# Altium integrated library Diode - Rectifier.IntLib: 777 symbols (part 5 of 12)
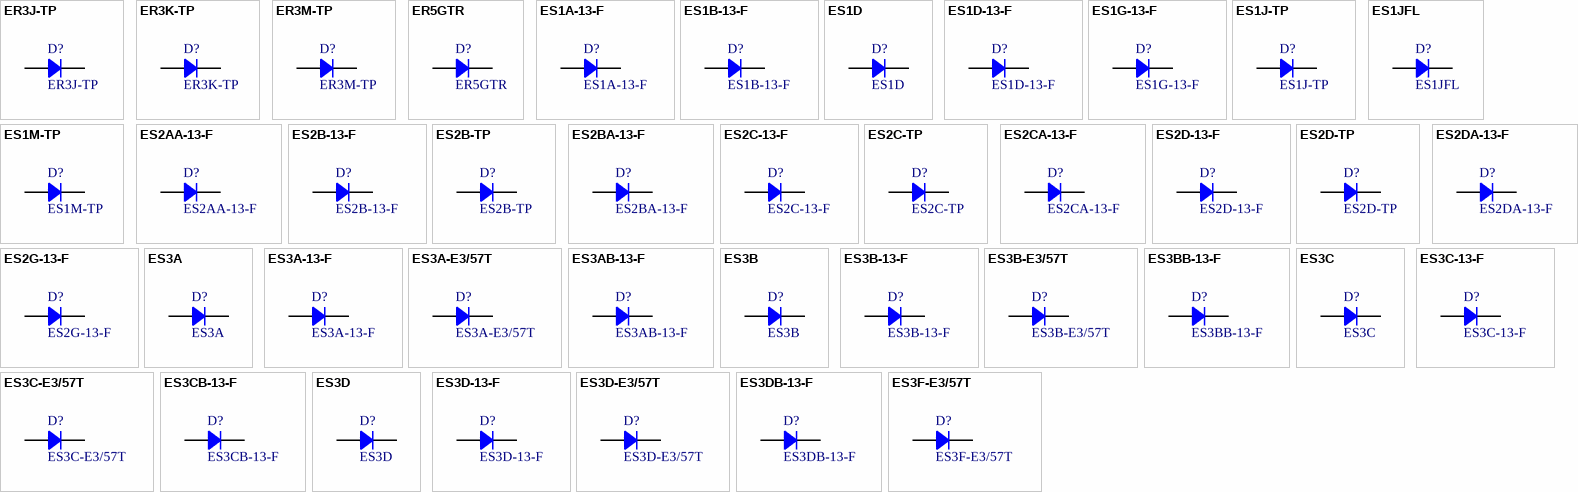
[diagram p23: symbols ER3J-TP to ES3F-E3/57T]

## ES2C-TP
designator D?
DIODE GEN PURP 150V 2A DO214AC; Manufacturer: Micro Commercial Co; Type: Standard; Current Reverse Leakage @ Vr: 5uA @ 150V; Reverse Recovery Time (trr): 50ns; Voltage Forward (Vf): 975mV @ 2A; Part Number: ES2C-TP; PartId: 18061; Supplier 1: Digi-Key; Supplier Part Number 1: ES2C-TPTR-ND; ComponentLink1Description: Datasheet; ComponentLink1URL: http://www.mccsemi.com/up_pdf/ES2A-ES2M(HSMA).pdf; ComponentLink2Description: Digi-Key Listing; ComponentLink2URL: https://www.digikey.com/product-detail/en/micro-commercial-co/ES2C-TP/ES2C-TPTR-ND/1306184; Junction Operating Temperature: -50C ~ 150C; Price: 0.1738; Device Package: DO-214AC, SMA; Voltage DC Reverse (Vr): 150V; Current Rectified: 2A
footprint ST DO214AC SMA
pins: 1, 2

## ES2CA-13-F
designator D?
DIODE GEN PURP 150V 2A SMA; Manufacturer: Diodes Incorporated; Type: Standard; Current Reverse Leakage @ Vr: 5uA @ 150V; Reverse Recovery Time (trr): 25ns; Voltage Forward (Vf): 920mV @ 2A; Part Number: ES2CA-13-F; PartId: 16365; Supplier 1: Digi-Key; Supplier Part Number 1: ES2CA-FDITR-ND; ComponentLink1Description: Datasheet; ComponentLink1URL: http://www.diodes.com/_files/datasheets/ds14002.pdf; ComponentLink2Description: Digi-Key Listing; ComponentLink2URL: https://www.digikey.com/product-detail/en/diodes-incorporated/ES2CA-13-F/ES2CA-FDITR-ND/815107; Junction Operating Temperature: -55C ~ 150C; Price: 0.243; Device Package: DO-214AC, SMA; Voltage DC Reverse (Vr): 150V; Current Rectified: 2A
footprint DO214AC SMA
pins: 1, 2

## ES2D-13-F
designator D?
DIODE GEN PURP 200V 2A SMB; Manufacturer: Diodes Incorporated; Type: Standard; Current Reverse Leakage @ Vr: 5uA @ 200V; Reverse Recovery Time (trr): 25ns; Voltage Forward (Vf): 920mV @ 2A; Part Number: ES2D-13-F; PartId: 16288; Supplier 1: Digi-Key; Supplier Part Number 1: ES2D-FDITR-ND; ComponentLink1Description: Datasheet; ComponentLink1URL: http://www.diodes.com/_files/datasheets/ds14002.pdf; ComponentLink2Description: Digi-Key Listing; ComponentLink2URL: https://www.digikey.com/product-detail/en/diodes-incorporated/ES2D-13-F/ES2D-FDITR-ND/749967; Junction Operating Temperature: -55C ~ 150C; Price: 0.155; Device Package: DO-214AA, SMB; Voltage DC Reverse (Vr): 200V; Current Rectified: 2A
footprint DO214AA SMB
pins: 1, 2

## ES2D-TP
designator D?
DIODE GEN PURP 200V 2A DO214AC; Manufacturer: Micro Commercial Co; Type: Standard; Current Reverse Leakage @ Vr: 5uA @ 200V; Reverse Recovery Time (trr): 50ns; Voltage Forward (Vf): 975mV @ 2A; Part Number: ES2D-TP; PartId: 18059; Supplier 1: Digi-Key; Supplier Part Number 1: ES2D-TPTR-ND; ComponentLink1Description: Datasheet; ComponentLink1URL: http://www.mccsemi.com/up_pdf/ES2A-ES2M(HSMA).pdf; ComponentLink2Description: Digi-Key Listing; ComponentLink2URL: https://www.digikey.com/product-detail/en/micro-commercial-co/ES2D-TP/ES2D-TPTR-ND/1306185; Junction Operating Temperature: -50C ~ 150C; Price: 0.1738; Device Package: DO-214AC, SMA; Voltage DC Reverse (Vr): 200V; Current Rectified: 2A
footprint ST DO214AC SMA
pins: 1, 2

## ES2DA-13-F
designator D?
DIODE GEN PURP 200V 2A SMA; Manufacturer: Diodes Incorporated; Type: Standard; Current Reverse Leakage @ Vr: 5uA @ 200V; Reverse Recovery Time (trr): 25ns; Voltage Forward (Vf): 920mV @ 2A; Part Number: ES2DA-13-F; PartId: 16337; Supplier 1: Digi-Key; Supplier Part Number 1: ES2DA-FDITR-ND; ComponentLink1Description: Datasheet; ComponentLink1URL: http://www.diodes.com/_files/datasheets/ds14002.pdf; ComponentLink2Description: Digi-Key Listing; ComponentLink2URL: https://www.digikey.com/product-detail/en/diodes-incorporated/ES2DA-13-F/ES2DA-FDITR-ND/725018; Junction Operating Temperature: -55C ~ 150C; Price: 0.124; Device Package: DO-214AC, SMA; Voltage DC Reverse (Vr): 200V; Current Rectified: 2A
footprint DO214AC SMA
pins: 1, 2

## ES2G-13-F
designator D?
DIODE GEN PURP 400V 2A SMB; Manufacturer: Diodes Incorporated; Type: Standard; Current Reverse Leakage @ Vr: 5uA @ 400V; Reverse Recovery Time (trr): 35ns; Voltage Forward (Vf): 1.25V @ 2A; Part Number: ES2G-13-F; PartId: 16283; Supplier 1: Digi-Key; Supplier Part Number 1: ES2G-FDITR-ND; ComponentLink1Description: Datasheet; ComponentLink1URL: http://www.diodes.com/_files/datasheets/ds30212.pdf; ComponentLink2Description: Digi-Key Listing; ComponentLink2URL: https://www.digikey.com/product-detail/en/diodes-incorporated/ES2G-13-F/ES2G-FDITR-ND/1099121; Junction Operating Temperature: -55C ~ 150C; Price: 0.1237; Device Package: DO-214AA, SMB; Voltage DC Reverse (Vr): 400V; Current Rectified: 2A
footprint DO214AA SMB
pins: 1, 2

## ES3A
designator D?
DIODE GEN PURP 50V 3A SMC; Manufacturer: Fairchild/ON Semiconductor; Type: Standard; Current Reverse Leakage @ Vr: 10uA @ 50V; Reverse Recovery Time (trr): 20ns; Voltage Forward (Vf): 950mV @ 3A; Part Number: ES3A; PartId: 27682; Supplier 1: Digi-Key; Supplier Part Number 1: ES3AFSCT-ND; ComponentLink1Description: Datasheet; ComponentLink1URL: https://www.fairchildsemi.com/datasheets/ES/ES3A.pdf; ComponentLink2Description: Digi-Key Listing; ComponentLink2URL: https://www.digikey.com/product-detail/en/fairchild-on-semiconductor/ES3A/ES3AFSCT-ND/3042551; Junction Operating Temperature: -50C ~ 150C; Price: 0.51; Device Package: DO-214AB, SMC; Voltage DC Reverse (Vr): 50V; Current Rectified: 3A
footprint ST DO214AB SMC
pins: 1, 2

## ES3A-13-F
designator D?
DIODE GEN PURP 50V 3A SMC; Manufacturer: Diodes Incorporated; Type: Standard; Current Reverse Leakage @ Vr: 10uA @ 50V; Reverse Recovery Time (trr): 25ns; Voltage Forward (Vf): 900mV @ 3A; Part Number: ES3A-13-F; PartId: 16232; Supplier 1: Digi-Key; Supplier Part Number 1: ES3A-FDITR-ND; ComponentLink1Description: Datasheet; ComponentLink1URL: http://www.diodes.com/_files/datasheets/ds14003.pdf; ComponentLink2Description: Digi-Key Listing; ComponentLink2URL: https://www.digikey.com/product-detail/en/diodes-incorporated/ES3A-13-F/ES3A-FDITR-ND/815136; Junction Operating Temperature: -55C ~ 150C; Price: 0.217; Device Package: DO-214AB, SMC; Voltage DC Reverse (Vr): 50V; Current Rectified: 3A
footprint DO214AB SMC
pins: 1, 2

## ES3A-E3/57T
designator D?
DIODE GEN PURP 50V 3A DO214AB; Manufacturer: Vishay Semiconductor Diodes Division; Type: Standard; Current Reverse Leakage @ Vr: 10uA @ 50V; Reverse Recovery Time (trr): 30ns; Voltage Forward (Vf): 900mV @ 3A; Part Number: ES3A-E3/57T; PartId: 27830; Supplier 1: Digi-Key; Supplier Part Number 1: ES3A-E3/57TGICT-ND; ComponentLink1Description: Datasheet; ComponentLink1URL: http://www.vishay.com/docs/88589/es3.pdf; ComponentLink2Description: Digi-Key Listing; ComponentLink2URL: https://www.digikey.com/product-detail/en/vishay-semiconductor-diodes-division/ES3A-E3-57T/ES3A-E3-57TGICT-ND/4498268; Junction Operating Temperature: -55C ~ 150C; Price: 0.49; Device Package: DO-214AB, SMC; Voltage DC Reverse (Vr): 50V; Current Rectified: 3A
footprint ST DO214AB SMC
pins: 1, 2

## ES3AB-13-F
designator D?
DIODE GEN PURP 50V 3A SMB; Manufacturer: Diodes Incorporated; Type: Standard; Current Reverse Leakage @ Vr: 10uA @ 50V; Reverse Recovery Time (trr): 25ns; Voltage Forward (Vf): 900mV @ 3A; Part Number: ES3AB-13-F; PartId: 16261; Supplier 1: Digi-Key; Supplier Part Number 1: ES3AB-FDITR-ND; ComponentLink1Description: Datasheet; ComponentLink1URL: http://www.diodes.com/_files/datasheets/ds14003.pdf; ComponentLink2Description: Digi-Key Listing; ComponentLink2URL: https://www.digikey.com/product-detail/en/diodes-incorporated/ES3AB-13-F/ES3AB-FDITR-ND/775734; Junction Operating Temperature: -55C ~ 150C; Price: 0.217; Device Package: DO-214AA, SMB; Voltage DC Reverse (Vr): 50V; Current Rectified: 3A
footprint DO214AA SMB
pins: 1, 2

## ES3B
designator D?
DIODE GEN PURP 100V 3A SMC; Manufacturer: Fairchild/ON Semiconductor; Type: Standard; Current Reverse Leakage @ Vr: 10uA @ 100V; Reverse Recovery Time (trr): 20ns; Voltage Forward (Vf): 950mV @ 3A; Part Number: ES3B; PartId: 27834; Supplier 1: Digi-Key; Supplier Part Number 1: ES3BFSCT-ND; ComponentLink1Description: Datasheet; ComponentLink1URL: https://www.fairchildsemi.com/datasheets/ES/ES3B.pdf; ComponentLink2Description: Digi-Key Listing; ComponentLink2URL: https://www.digikey.com/product-detail/en/fairchild-on-semiconductor/ES3B/ES3BFSCT-ND/2053091; Junction Operating Temperature: -50C ~ 150C; Price: 0.51; Device Package: DO-214AB, SMC; Voltage DC Reverse (Vr): 100V; Current Rectified: 3A
footprint ST DO214AB SMC
pins: 1, 2

## ES3B-13-F
designator D?
DIODE GEN PURP 100V 3A SMC; Manufacturer: Diodes Incorporated; Type: Standard; Current Reverse Leakage @ Vr: 10uA @ 100V; Reverse Recovery Time (trr): 25ns; Voltage Forward (Vf): 900mV @ 3A; Part Number: ES3B-13-F; PartId: 16209; Supplier 1: Digi-Key; Supplier Part Number 1: ES3B-FDITR-ND; ComponentLink1Description: Datasheet; ComponentLink1URL: http://www.diodes.com/_files/datasheets/ds14003.pdf; ComponentLink2Description: Digi-Key Listing; ComponentLink2URL: https://www.digikey.com/product-detail/en/diodes-incorporated/ES3B-13-F/ES3B-FDITR-ND/724955; Junction Operating Temperature: -55C ~ 150C; Price: 0.2465; Device Package: DO-214AB, SMC; Voltage DC Reverse (Vr): 100V; Current Rectified: 3A
footprint DO214AB SMC
pins: 1, 2

## ES3B-E3/57T
designator D?
DIODE GEN PURP 100V 3A DO214AB; Manufacturer: Vishay Semiconductor Diodes Division; Type: Standard; Current Reverse Leakage @ Vr: 10uA @ 100V; Reverse Recovery Time (trr): 30ns; Voltage Forward (Vf): 900mV @ 3A; Part Number: ES3B-E3/57T; PartId: 27748; Supplier 1: Digi-Key; Supplier Part Number 1: ES3B-E3/57TGICT-ND; ComponentLink1Description: Datasheet; ComponentLink1URL: http://www.vishay.com/docs/88589/es3.pdf; ComponentLink2Description: Digi-Key Listing; ComponentLink2URL: https://www.digikey.com/product-detail/en/vishay-semiconductor-diodes-division/ES3B-E3-57T/ES3B-E3-57TGICT-ND/1091577; Junction Operating Temperature: -55C ~ 150C; Price: 0.49; Device Package: DO-214AB, SMC; Voltage DC Reverse (Vr): 100V; Current Rectified: 3A
footprint ST DO214AB SMC
pins: 1, 2

## ES3BB-13-F
designator D?
DIODE GEN PURP 100V 3A SMB; Manufacturer: Diodes Incorporated; Type: Standard; Current Reverse Leakage @ Vr: 10uA @ 100V; Reverse Recovery Time (trr): 25ns; Voltage Forward (Vf): 900mV @ 3A; Part Number: ES3BB-13-F; PartId: 16262; Supplier 1: Digi-Key; Supplier Part Number 1: ES3BB-FDITR-ND; ComponentLink1Description: Datasheet; ComponentLink1URL: http://www.diodes.com/_files/datasheets/ds14003.pdf; ComponentLink2Description: Digi-Key Listing; ComponentLink2URL: https://www.digikey.com/product-detail/en/diodes-incorporated/ES3BB-13-F/ES3BB-FDITR-ND/804873; Junction Operating Temperature: -55C ~ 150C; Price: 0.217; Device Package: DO-214AA, SMB; Voltage DC Reverse (Vr): 100V; Current Rectified: 3A
footprint DO214AA SMB
pins: 1, 2

## ES3C
designator D?
DIODE GEN PURP 150V 3A SMC; Manufacturer: Fairchild/ON Semiconductor; Type: Standard; Current Reverse Leakage @ Vr: 10uA @ 150V; Reverse Recovery Time (trr): 20ns; Voltage Forward (Vf): 950mV @ 3A; Part Number: ES3C; PartId: 27765; Supplier 1: Digi-Key; Supplier Part Number 1: ES3CFSCT-ND; ComponentLink1Description: Datasheet; ComponentLink1URL: https://www.fairchildsemi.com/datasheets/ES/ES3A.pdf; ComponentLink2Description: Digi-Key Listing; ComponentLink2URL: https://www.digikey.com/product-detail/en/fairchild-on-semiconductor/ES3C/ES3CFSCT-ND/3478297; Junction Operating Temperature: -50C ~ 150C; Price: 0.51; Device Package: DO-214AB, SMC; Voltage DC Reverse (Vr): 150V; Current Rectified: 3A
footprint ST DO214AB SMC
pins: 1, 2

## ES3C-13-F
designator D?
DIODE GEN PURP 150V 3A SMC; Manufacturer: Diodes Incorporated; Type: Standard; Current Reverse Leakage @ Vr: 10uA @ 150V; Reverse Recovery Time (trr): 25ns; Voltage Forward (Vf): 900mV @ 3A; Part Number: ES3C-13-F; PartId: 16235; Supplier 1: Digi-Key; Supplier Part Number 1: ES3C-FDITR-ND; ComponentLink1Description: Datasheet; ComponentLink1URL: http://www.diodes.com/_files/datasheets/ds14003.pdf; ComponentLink2Description: Digi-Key Listing; ComponentLink2URL: https://www.digikey.com/product-detail/en/diodes-incorporated/ES3C-13-F/ES3C-FDITR-ND/750065; Junction Operating Temperature: -55C ~ 150C; Price: 0.378; Device Package: DO-214AB, SMC; Voltage DC Reverse (Vr): 150V; Current Rectified: 3A
footprint DO214AB SMC
pins: 1, 2

## ES3C-E3/57T
designator D?
DIODE GEN PURP 150V 3A DO214AB; Manufacturer: Vishay Semiconductor Diodes Division; Type: Standard; Current Reverse Leakage @ Vr: 10uA @ 150V; Reverse Recovery Time (trr): 30ns; Voltage Forward (Vf): 900mV @ 3A; Part Number: ES3C-E3/57T; PartId: 27781; Supplier 1: Digi-Key; Supplier Part Number 1: ES3C-E3/57TGICT-ND; ComponentLink1Description: Datasheet; ComponentLink1URL: http://www.vishay.com/docs/88589/es3.pdf; ComponentLink2Description: Digi-Key Listing; ComponentLink2URL: https://www.digikey.com/product-detail/en/vishay-semiconductor-diodes-division/ES3C-E3-57T/ES3C-E3-57TGICT-ND/3847587; Junction Operating Temperature: -55C ~ 150C; Price: 0.49; Device Package: DO-214AB, SMC; Voltage DC Reverse (Vr): 150V; Current Rectified: 3A
footprint ST DO214AB SMC
pins: 1, 2

## ES3CB-13-F
designator D?
DIODE GEN PURP 150V 3A SMB; Manufacturer: Diodes Incorporated; Type: Standard; Current Reverse Leakage @ Vr: 10uA @ 150V; Reverse Recovery Time (trr): 25ns; Voltage Forward (Vf): 900mV @ 3A; Part Number: ES3CB-13-F; PartId: 16292; Supplier 1: Digi-Key; Supplier Part Number 1: ES3CB-FDITR-ND; ComponentLink1Description: Datasheet; ComponentLink1URL: http://www.diodes.com/_files/datasheets/ds14003.pdf; ComponentLink2Description: Digi-Key Listing; ComponentLink2URL: https://www.digikey.com/product-detail/en/diodes-incorporated/ES3CB-13-F/ES3CB-FDITR-ND/755462; Junction Operating Temperature: -55C ~ 150C; Price: 0.217; Device Package: DO-214AA, SMB; Voltage DC Reverse (Vr): 150V; Current Rectified: 3A
footprint DO214AA SMB
pins: 1, 2

## ES3D
designator D?
DIODE GEN PURP 200V 3A SMC; Manufacturer: Fairchild Semiconductor; Type: Surface Mount; Current Reverse Leakage @ Vr: 10uA @ 200V; Reverse Recovery Time (trr): 20ns; Voltage Forward (Vf): 950mV @ 3A; Part Number: ES3D; PartId: 7139; Supplier 1: Digi-Key; Supplier Part Number 1: ES3DFSTR-ND; ComponentLink1Description: Datasheet; ComponentLink1URL: http://www.fairchildsemi.com/datasheets/ES/ES3A.pdf; ComponentLink2Description: Digi-Key Listing; ComponentLink2URL: http://www.digikey.ca/product-detail/en/ES3D/ES3DFSTR-ND/458839; Junction Operating Temperature: -50C ~ 150C; Price: 0.1935; Device Package: DO-214AB, SMC; Voltage DC Reverse (Vr): 200V; Current Rectified: 3A
footprint DO214AB SMC
pins: 1, 2

## ES3D-13-F
designator D?
DIODE GEN PURP 200V 3A SMC; Manufacturer: Diodes Incorporated; Type: Standard; Current Reverse Leakage @ Vr: 10uA @ 200V; Reverse Recovery Time (trr): 25ns; Voltage Forward (Vf): 900mV @ 3A; Part Number: ES3D-13-F; PartId: 16226; Supplier 1: Digi-Key; Supplier Part Number 1: ES3D-FDITR-ND; ComponentLink1Description: Datasheet; ComponentLink1URL: http://www.diodes.com/_files/datasheets/ds14003.pdf; ComponentLink2Description: Digi-Key Listing; ComponentLink2URL: https://www.digikey.com/product-detail/en/diodes-incorporated/ES3D-13-F/ES3D-FDITR-ND/765413; Junction Operating Temperature: -55C ~ 150C; Price: 0.217; Device Package: DO-214AB, SMC; Voltage DC Reverse (Vr): 200V; Current Rectified: 3A
footprint DO214AB SMC
pins: 1, 2

## ES3D-E3/57T
designator D?
DIODE GEN PURP 200V 3A DO214AB; Manufacturer: Vishay Semiconductor Diodes Division; Type: Standard; Current Reverse Leakage @ Vr: 10uA @ 200V; Reverse Recovery Time (trr): 30ns; Voltage Forward (Vf): 900mV @ 3A; Part Number: ES3D-E3/57T; PartId: 27694; Supplier 1: Digi-Key; Supplier Part Number 1: ES3D-E3/57TGICT-ND; ComponentLink1Description: Datasheet; ComponentLink1URL: http://www.vishay.com/docs/88589/es3.pdf; ComponentLink2Description: Digi-Key Listing; ComponentLink2URL: https://www.digikey.com/product-detail/en/vishay-semiconductor-diodes-division/ES3D-E3-57T/ES3D-E3-57TGICT-ND/1091578; Junction Operating Temperature: -55C ~ 150C; Price: 0.49; Device Package: DO-214AB, SMC; Voltage DC Reverse (Vr): 200V; Current Rectified: 3A
footprint ST DO214AB SMC
pins: 1, 2

## ES3DB-13-F
designator D?
DIODE GEN PURP 200V 3A SMB; Manufacturer: Diodes Incorporated; Type: Standard; Current Reverse Leakage @ Vr: 10uA @ 200V; Reverse Recovery Time (trr): 25ns; Voltage Forward (Vf): 900mV @ 3A; Part Number: ES3DB-13-F; PartId: 16259; Supplier 1: Digi-Key; Supplier Part Number 1: ES3DB-FDITR-ND; ComponentLink1Description: Datasheet; ComponentLink1URL: http://www.diodes.com/_files/datasheets/ds14003.pdf; ComponentLink2Description: Digi-Key Listing; ComponentLink2URL: https://www.digikey.com/product-detail/en/diodes-incorporated/ES3DB-13-F/ES3DB-FDITR-ND/775840; Junction Operating Temperature: -55C ~ 150C; Price: 0.217; Device Package: DO-214AA, SMB; Voltage DC Reverse (Vr): 200V; Current Rectified: 3A
footprint DO214AA SMB
pins: 1, 2

## ES3F-E3/57T
designator D?
DIODE GEN PURP 300V 3A DO214AB; Manufacturer: Vishay Semiconductor Diodes Division; Type: Standard; Current Reverse Leakage @ Vr: 10uA @ 300V; Reverse Recovery Time (trr): 50ns; Voltage Forward (Vf): 1.1V @ 3A; Part Number: ES3F-E3/57T; PartId: 27782; Supplier 1: Digi-Key; Supplier Part Number 1: ES3F-E3/57TGICT-ND; ComponentLink1Description: Datasheet; ComponentLink1URL: http://www.vishay.com/docs/88590/es3f.pdf; ComponentLink2Description: Digi-Key Listing; ComponentLink2URL: https://www.digikey.com/product-detail/en/vishay-semiconductor-diodes-division/ES3F-E3-57T/ES3F-E3-57TGICT-ND/4498269; Junction Operating Temperature: -55C ~ 150C; Price: 0.49; Device Package: DO-214AB, SMC; Voltage DC Reverse (Vr): 300V; Current Rectified: 3A
footprint ST DO214AB SMC
pins: 1, 2

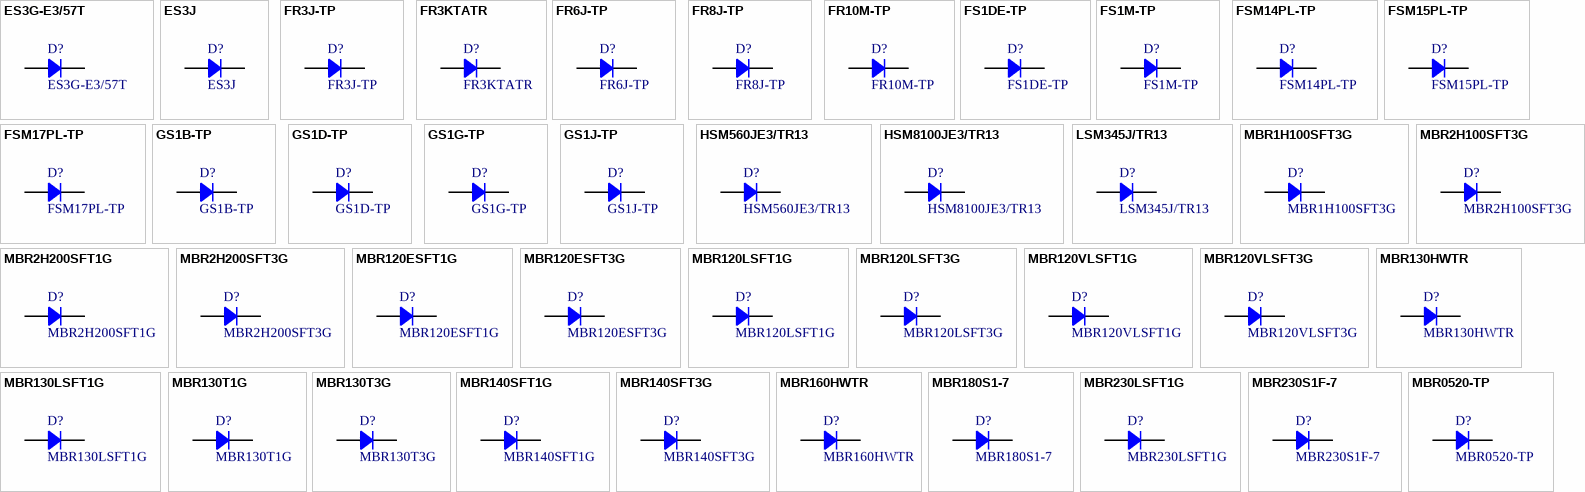
[diagram p7: symbols ES3G-E3/57T to MBR0520-TP]

## ES3G-E3/57T
designator D?
DIODE GEN PURP 400V 3A DO214AB; Manufacturer: Vishay Semiconductor Diodes Division; Type: Standard; Current Reverse Leakage @ Vr: 10uA @ 400V; Reverse Recovery Time (trr): 50ns; Voltage Forward (Vf): 1.1V @ 3A; Part Number: ES3G-E3/57T; PartId: 27747; Supplier 1: Digi-Key; Supplier Part Number 1: ES3G-E3/57TGICT-ND; ComponentLink1Description: Datasheet; ComponentLink1URL: http://www.vishay.com/docs/88590/es3f.pdf; ComponentLink2Description: Digi-Key Listing; ComponentLink2URL: https://www.digikey.com/product-detail/en/vishay-semiconductor-diodes-division/ES3G-E3-57T/ES3G-E3-57TGICT-ND/1091579; Junction Operating Temperature: -55C ~ 150C; Price: 0.49; Device Package: DO-214AB, SMC; Voltage DC Reverse (Vr): 400V; Current Rectified: 3A
footprint ST DO214AB SMC
pins: 1, 2

## ES3J
designator D?
DIODE GEN PURP 600V 3A SMC; Manufacturer: Fairchild/ON Semiconductor; Type: Standard; Current Reverse Leakage @ Vr: 10uA @ 600V; Reverse Recovery Time (trr): 35ns; Voltage Forward (Vf): 1.7V @ 3A; Part Number: ES3J; PartId: 27720; Supplier 1: Digi-Key; Supplier Part Number 1: ES3JCT-ND; ComponentLink1Description: Datasheet; ComponentLink1URL: https://www.fairchildsemi.com/datasheets/ES/ES3A.pdf; ComponentLink2Description: Digi-Key Listing; ComponentLink2URL: https://www.digikey.com/product-detail/en/fairchild-on-semiconductor/ES3J/ES3JCT-ND/1087833; Junction Operating Temperature: -50C ~ 150C; Price: 0.5; Device Package: DO-214AB, SMC; Voltage DC Reverse (Vr): 600V; Current Rectified: 3A
footprint ST DO214AB SMC
pins: 1, 2

## FR3J-TP
designator D?
DIODE GEN PURP 600V 3A DO214AB; Manufacturer: Micro Commercial Co; Type: Standard; Current Reverse Leakage @ Vr: 10uA @ 600V; Reverse Recovery Time (trr): 250ns; Voltage Forward (Vf): 1.3V @ 3A; Part Number: FR3J-TP; PartId: 27851; Supplier 1: Digi-Key; Supplier Part Number 1: FR3J-TPMSCT-ND; ComponentLink1Description: Datasheet; ComponentLink1URL: http://www.mccsemi.com/up_pdf/FR3A-FR3M(SMC).pdf; ComponentLink2Description: Digi-Key Listing; ComponentLink2URL: https://www.digikey.com/product-detail/en/micro-commercial-co/FR3J-TP/FR3J-TPMSCT-ND/3191611; Junction Operating Temperature: -55C ~ 150C; Price: 0.63; Device Package: DO-214AB, SMC; Voltage DC Reverse (Vr): 600V; Current Rectified: 3A
footprint ST DO214AB SMC
pins: 1, 2

## FR3KTATR
designator D?
DIODE GEN PURP 800V 3A SMC; Manufacturer: SMC Diode Solutions; Type: Standard; Current Reverse Leakage @ Vr: 5uA @ 800V; Reverse Recovery Time (trr): 500ns; Voltage Forward (Vf): 1.3V @ 3A; Part Number: FR3KTATR; PartId: 27797; Supplier 1: Digi-Key; Supplier Part Number 1: 1655-1431-1-ND; ComponentLink1Description: Datasheet; ComponentLink1URL: http://www.smc-diodes.com/propdf/FR3A-FR3M%20N1742%20REV.A.pdf; ComponentLink2Description: Digi-Key Listing; ComponentLink2URL: https://www.digikey.com/product-detail/en/smc-diode-solutions/FR3KTATR/1655-1431-1-ND/6022876; Junction Operating Temperature: -65C ~ 150C; Price: 0.43; Device Package: DO-214AB, SMC; Voltage DC Reverse (Vr): 800V; Current Rectified: 3A
footprint ST DO214AB SMC
pins: 1, 2

## FR6J-TP
designator D?
DIODE GEN PURP 600V 6A DO214AB; Manufacturer: Micro Commercial Co; Type: Standard; Current Reverse Leakage @ Vr: 10uA @ 600V; Reverse Recovery Time (trr): 250ns; Voltage Forward (Vf): 1.3V @ 6A; Part Number: FR6J-TP; PartId: 27750; Supplier 1: Digi-Key; Supplier Part Number 1: FR6J-TPMSCT-ND; ComponentLink1Description: Datasheet; ComponentLink1URL: http://www.mccsemi.com/up_pdf/FR6J(HSMC).pdf; ComponentLink2Description: Digi-Key Listing; ComponentLink2URL: https://www.digikey.com/product-detail/en/micro-commercial-co/FR6J-TP/FR6J-TPMSCT-ND/3191612; Junction Operating Temperature: -55C ~ 150C; Price: 0.65; Device Package: DO-214AB, SMC; Voltage DC Reverse (Vr): 600V; Current Rectified: 6A
footprint ST DO214AB SMC
pins: 1, 2

## FR8J-TP
designator D?
DIODE GEN PURP 600V 8A DO214AB; Manufacturer: Micro Commercial Co; Type: Standard; Current Reverse Leakage @ Vr: 10uA @ 600V; Reverse Recovery Time (trr): 250ns; Voltage Forward (Vf): 1.3V @ 8A; Part Number: FR8J-TP; PartId: 27852; Supplier 1: Digi-Key; Supplier Part Number 1: FR8J-TPMSCT-ND; ComponentLink1Description: Datasheet; ComponentLink1URL: http://www.mccsemi.com/up_pdf/FR8J(HSMC).pdf; ComponentLink2Description: Digi-Key Listing; ComponentLink2URL: https://www.digikey.com/product-detail/en/micro-commercial-co/FR8J-TP/FR8J-TPMSCT-ND/4966288; Junction Operating Temperature: -55C ~ 150C; Price: 0.65; Device Package: DO-214AB, SMC; Voltage DC Reverse (Vr): 600V; Current Rectified: 8A
footprint ST DO214AB SMC
pins: 1, 2

## FR10M-TP
designator D?
DIODE GEN PURP 1KV 10A DO214AB; Manufacturer: Micro Commercial Co; Type: Standard; Current Reverse Leakage @ Vr: 10uA @ 1000V; Reverse Recovery Time (trr): 500ns; Voltage DC Reverse (Vr): 1000V (1kV); Voltage Forward (Vf): 1.3V @ 10A; Part Number: FR10M-TP; PartId: 27863; Supplier 1: Digi-Key; Supplier Part Number 1: FR10M-TPMSCT-ND; ComponentLink1Description: Datasheet; ComponentLink1URL: http://www.mccsemi.com/up_pdf/FR10A-FR10M(HSMC).pdf; ComponentLink2Description: Digi-Key Listing; ComponentLink2URL: https://www.digikey.com/product-detail/en/micro-commercial-co/FR10M-TP/FR10M-TPMSCT-ND/4966289; Junction Operating Temperature: -55C ~ 150C; Price: 0.74; Device Package: DO-214AB, SMC; Current Rectified: 10A
footprint ST DO214AB SMC
pins: 1, 2

## FS1DE-TP
designator D?
DIODE GEN PURP 200V 1A SMAE; Manufacturer: Micro Commercial Co; Type: Surface Mount; Current Reverse Leakage @ Vr: 5uA @ 200V; Reverse Recovery Time (trr): 150ns; Voltage Forward (Vf): 1.3V @ 1A; Part Number: FS1DE-TP; PartId: 7120; Supplier 1: Digi-Key; Supplier Part Number 1: 1505-FS1DE-TP-CHP; ComponentLink1Description: Datasheet; ComponentLink2Description: Digi-Key Listing; ComponentLink2URL: http://www.digikey.ca/product-detail/en/FS1DE-TP/1505-FS1DE-TP-CHP/4765974; Junction Operating Temperature: -50C ~ 150C; Price: 0.0542; Device Package: DO-214AC, SMA; Voltage DC Reverse (Vr): 200V; Current Rectified: 1A
footprint DO214AC SMA
pins: 1, 2

## FS1M-TP
designator D?
DIODE GEN PURP 1KV 1A DO214AC; Manufacturer: Micro Commercial Co; Type: Standard; Current Reverse Leakage @ Vr: 5uA @ 1000V; Reverse Recovery Time (trr): 500ns; Voltage DC Reverse (Vr): 1000V (1kV); Voltage Forward (Vf): 1.3V @ 1A; Part Number: FS1M-TP; PartId: 18062; Supplier 1: Digi-Key; Supplier Part Number 1: 1505-FS1M-TP-CHP; ComponentLink1Description: Datasheet; ComponentLink2Description: Digi-Key Listing; ComponentLink2URL: https://www.digikey.com/product-detail/en/micro-commercial-co/FS1M-TP/1505-FS1M-TP-CHP/4765975; Junction Operating Temperature: -50C ~ 150C; Price: 0.08; Device Package: DO-214AC, SMA; Current Rectified: 1A
footprint ST DO214AC SMA
pins: 1, 2

## FSM14PL-TP
designator D?
DIODE GEN PURP 400V 1A SOD123FL; Manufacturer: Micro Commercial Co; Type: Standard; Current Reverse Leakage @ Vr: 5uA @ 400V; Reverse Recovery Time (trr): 250ns; Voltage Forward (Vf): 1.3V @ 1A; Part Number: FSM14PL-TP; PartId: 29309; Supplier 1: Digi-Key; Supplier Part Number 1: FSM14PL-TPMSCT-ND; ComponentLink1Description: Datasheet; ComponentLink1URL: http://www.mccsemi.com/up_pdf/FSM11PL-FSM17PL(SOD-123FL).pdf; ComponentLink2Description: Digi-Key Listing; ComponentLink2URL: https://www.digikey.com/product-detail/en/micro-commercial-co/FSM14PL-TP/FSM14PL-TPMSCT-ND/5224284; Junction Operating Temperature: -65C ~ 150C; Price: 0.54; Device Package: SOD-123F; Voltage DC Reverse (Vr): 400V; Current Rectified: 1A
footprint SOD123F
pins: 1, 2

## FSM15PL-TP
designator D?
DIODE GEN PURP 600V 1A SOD123FL; Manufacturer: Micro Commercial Co; Type: Standard; Current Reverse Leakage @ Vr: 5uA @ 600V; Reverse Recovery Time (trr): 500ns; Voltage Forward (Vf): 1.3V @ 1A; Part Number: FSM15PL-TP; PartId: 29308; Supplier 1: Digi-Key; Supplier Part Number 1: FSM15PL-TPMSCT-ND; ComponentLink1Description: Datasheet; ComponentLink1URL: http://www.mccsemi.com/up_pdf/FSM11PL-FSM17PL(SOD-123FL).pdf; ComponentLink2Description: Digi-Key Listing; ComponentLink2URL: https://www.digikey.com/product-detail/en/micro-commercial-co/FSM15PL-TP/FSM15PL-TPMSCT-ND/5224287; Junction Operating Temperature: -65C ~ 150C; Price: 0.54; Device Package: SOD-123F; Voltage DC Reverse (Vr): 600V; Current Rectified: 1A
footprint SOD123F
pins: 1, 2

## FSM17PL-TP
designator D?
DIODE GEN PURP 1KV 1A SOD123FL; Manufacturer: Micro Commercial Co; Type: Standard; Current Reverse Leakage @ Vr: 5uA @ 600V; Reverse Recovery Time (trr): 500ns; Voltage DC Reverse (Vr): 1000V (1kV); Voltage Forward (Vf): 1.3V @ 1A; Part Number: FSM17PL-TP; PartId: 29242; Supplier 1: Digi-Key; Supplier Part Number 1: FSM17PL-TPMSCT-ND; ComponentLink1Description: Datasheet; ComponentLink1URL: http://www.mccsemi.com/up_pdf/FSM11PL-FSM17PL(SOD-123FL).pdf; ComponentLink2Description: Digi-Key Listing; ComponentLink2URL: https://www.digikey.com/product-detail/en/micro-commercial-co/FSM17PL-TP/FSM17PL-TPMSCT-ND/5224290; Junction Operating Temperature: -65C ~ 150C; Price: 0.54; Device Package: SOD-123F; Current Rectified: 1A
footprint SOD123F
pins: 1, 2

## GS1B-TP
designator D?
DIODE GEN PURP 100V 1A DO214AC; Manufacturer: Micro Commercial Co; Type: Standard; Current Reverse Leakage @ Vr: 10uA @ 100V; Voltage Forward (Vf): 1.1V @ 1A; Part Number: GS1B-TP; PartId: 18057; Supplier 1: Digi-Key; Supplier Part Number 1: GS1B-TPTR-ND; ComponentLink1Description: Datasheet; ComponentLink1URL: http://www.mccsemi.com/up_pdf/GS1A-GS1M(HSMA).pdf; ComponentLink2Description: Digi-Key Listing; ComponentLink2URL: https://www.digikey.com/product-detail/en/micro-commercial-co/GS1B-TP/GS1B-TPTR-ND/950426; Junction Operating Temperature: -55C ~ 150C; Price: 0.0865; Device Package: DO-214AC, SMA; Voltage DC Reverse (Vr): 100V; Current Rectified: 1A
footprint ST DO214AC SMA
pins: 1, 2

## GS1D-TP
designator D?
DIODE GEN PURP 200V 1A DO214AC; Manufacturer: Micro Commercial Co; Type: Standard; Current Reverse Leakage @ Vr: 10uA @ 200V; Voltage Forward (Vf): 1.1V @ 1A; Part Number: GS1D-TP; PartId: 18052; Supplier 1: Digi-Key; Supplier Part Number 1: GS1D-TPTR-ND; ComponentLink1Description: Datasheet; ComponentLink1URL: http://www.mccsemi.com/up_pdf/GS1A-GS1M(HSMA).pdf; ComponentLink2Description: Digi-Key Listing; ComponentLink2URL: https://www.digikey.com/product-detail/en/micro-commercial-co/GS1D-TP/GS1D-TPTR-ND/950427; Junction Operating Temperature: -55C ~ 150C; Price: 0.0865; Device Package: DO-214AC, SMA; Voltage DC Reverse (Vr): 200V; Current Rectified: 1A
footprint ST DO214AC SMA
pins: 1, 2

## GS1G-TP
designator D?
DIODE GEN PURP 400V 1A DO214AC; Manufacturer: Micro Commercial Co; Type: Standard; Current Reverse Leakage @ Vr: 10uA @ 400V; Voltage Forward (Vf): 1.1V @ 1A; Part Number: GS1G-TP; PartId: 18056; Supplier 1: Digi-Key; Supplier Part Number 1: GS1G-TPTR-ND; ComponentLink1Description: Datasheet; ComponentLink1URL: http://www.mccsemi.com/up_pdf/GS1A-GS1M(HSMA).pdf; ComponentLink2Description: Digi-Key Listing; ComponentLink2URL: https://www.digikey.com/product-detail/en/micro-commercial-co/GS1G-TP/GS1G-TPTR-ND/950428; Junction Operating Temperature: -55C ~ 150C; Price: 0.0865; Device Package: DO-214AC, SMA; Voltage DC Reverse (Vr): 400V; Current Rectified: 1A
footprint ST DO214AC SMA
pins: 1, 2

## GS1J-TP
designator D?
DIODE GEN PURP 600V 1A DO214AC; Manufacturer: Micro Commercial Co; Type: Standard; Current Reverse Leakage @ Vr: 10uA @ 600V; Voltage Forward (Vf): 1.1V @ 1A; Part Number: GS1J-TP; PartId: 18058; Supplier 1: Digi-Key; Supplier Part Number 1: GS1J-TPTR-ND; ComponentLink1Description: Datasheet; ComponentLink1URL: http://www.mccsemi.com/up_pdf/GS1A-GS1M(HSMA).pdf; ComponentLink2Description: Digi-Key Listing; ComponentLink2URL: https://www.digikey.com/product-detail/en/micro-commercial-co/GS1J-TP/GS1J-TPTR-ND/950429; Junction Operating Temperature: -55C ~ 150C; Price: 0.0865; Device Package: DO-214AC, SMA; Voltage DC Reverse (Vr): 600V; Current Rectified: 1A
footprint ST DO214AC SMA
pins: 1, 2

## HSM560JE3/TR13
designator D?
DIODE SCHOTTKY 60V 5A DO214AB; Manufacturer: Microsemi Corporation; Current Reverse Leakage @ Vr: 250uA @ 60V; Voltage Forward (Vf): 650mV @ 5A; Part Number: HSM560JE3/TR13; PartId: 27885; Supplier 1: Digi-Key; Supplier Part Number 1: HSM560JE3/TR13CT-ND; ComponentLink1Description: Datasheet; ComponentLink1URL: //media.digikey.com/pdf/Data%20Sheets/Microsemi%20PDFs/HSM550,560.pdf; ComponentLink2Description: Digi-Key Listing; ComponentLink2URL: https://www.digikey.com/product-detail/en/microsemi-corporation/HSM560JE3-TR13/HSM560JE3-TR13CT-ND/6137792; Junction Operating Temperature: -55C ~ 175C; Price: 1.63; Type: Schottky; Device Package: DO-214AB, SMC; Voltage DC Reverse (Vr): 60V; Current Rectified: 5A
footprint ST DO214AB SMC
pins: 1, 2

## HSM8100JE3/TR13
designator D?
DIODE SCHOTTKY 100V 8A DO214AB; Manufacturer: Microsemi Corporation; Current Reverse Leakage @ Vr: 500uA @ 100V; Voltage Forward (Vf): 780mV @ 8A; Part Number: HSM8100JE3/TR13; PartId: 27763; Supplier 1: Digi-Key; Supplier Part Number 1: HSM8100JE3/TR13CT-ND; ComponentLink1Description: Datasheet; ComponentLink1URL: //media.digikey.com/pdf/Data%20Sheets/Microsemi%20PDFs/HSM80,890,8100.pdf; ComponentLink2Description: Digi-Key Listing; ComponentLink2URL: https://www.digikey.com/product-detail/en/microsemi-corporation/HSM8100JE3-TR13/HSM8100JE3-TR13CT-ND/4395187; Junction Operating Temperature: -55C ~ 175C; Price: 2.3; Type: Schottky; Device Package: DO-214AB, SMC; Voltage DC Reverse (Vr): 100V; Current Rectified: 8A
footprint ST DO214AB SMC
pins: 1, 2

## LSM345J/TR13
designator D?
DIODE SCHOTTKY 45V 3A DO214AB; Manufacturer: Microsemi Corporation; Current Reverse Leakage @ Vr: 1.5mA @ 45V; Voltage Forward (Vf): 520mV @ 3A; Part Number: LSM345J/TR13; PartId: 27887; Supplier 1: Digi-Key; Supplier Part Number 1: LSM345JCT-ND; ComponentLink1Description: Datasheet; ComponentLink1URL: //media.digikey.com/pdf/Data%20Sheets/Microsemi%20PDFs/LSM345J.pdf; ComponentLink2Description: Digi-Key Listing; ComponentLink2URL: https://www.digikey.com/product-detail/en/microsemi-corporation/LSM345J-TR13/LSM345JCT-ND/700451; Junction Operating Temperature: -55C ~ 150C; Price: 1.92; Type: Schottky; Device Package: DO-214AB, SMC; Voltage DC Reverse (Vr): 45V; Current Rectified: 3A
footprint ST DO214AB SMC
pins: 1, 2

## MBR1H100SFT3G
designator D?
DIODE SCHOTTKY 100V 1A SOD123FL; Manufacturer: ON Semiconductor; Current Reverse Leakage @ Vr: 40uA @ 100V; Voltage Forward (Vf): 760mV @ 1A; Part Number: MBR1H100SFT3G; PartId: 29694; Supplier 1: Digi-Key; Supplier Part Number 1: MBR1H100SFT3GOSCT-ND; ComponentLink1Description: Datasheet; ComponentLink1URL: http://www.onsemi.com/pub_link/Collateral/MBR1H100SF-D.PDF; ComponentLink2Description: Digi-Key Listing; ComponentLink2URL: https://www.digikey.com/product-detail/en/on-semiconductor/MBR1H100SFT3G/MBR1H100SFT3GOSCT-ND/3462287; Junction Operating Temperature: -65C ~ 175C; Price: 0.85; Type: Schottky; Device Package: SOD-123F; Voltage DC Reverse (Vr): 100V; Current Rectified: 1A
footprint SOD123F
pins: 1, 2

## MBR2H100SFT3G
designator D?
DIODE SCHOTTKY 100V 2A SOD123FL; Manufacturer: ON Semiconductor; Current Reverse Leakage @ Vr: 40uA @ 100V; Voltage Forward (Vf): 840mV @ 2A; Part Number: MBR2H100SFT3G; PartId: 29287; Supplier 1: Digi-Key; Supplier Part Number 1: MBR2H100SFT3GOSCT-ND; ComponentLink1Description: Datasheet; ComponentLink1URL: http://www.onsemi.com/pub_link/Collateral/MBR2H100SF-D.PDF; ComponentLink2Description: Digi-Key Listing; ComponentLink2URL: https://www.digikey.com/product-detail/en/on-semiconductor/MBR2H100SFT3G/MBR2H100SFT3GOSCT-ND/3462288; Junction Operating Temperature: -65C ~ 175C; Price: 0.45; Type: Schottky; Device Package: SOD-123F; Voltage DC Reverse (Vr): 100V; Current Rectified: 2A
footprint SOD123F
pins: 1, 2

## MBR2H200SFT1G
designator D?
DIODE SCHOTTKY 200V 2A SOD123FL; Manufacturer: ON Semiconductor; Current Reverse Leakage @ Vr: 200uA @ 200V; Voltage Forward (Vf): 940mV @ 2A; Part Number: MBR2H200SFT1G; PartId: 29190; Supplier 1: Digi-Key; Supplier Part Number 1: MBR2H200SFT1GOSCT-ND; ComponentLink1Description: Datasheet; ComponentLink1URL: http://www.onsemi.com/pub_link/Collateral/MBR2H200SF-D.PDF; ComponentLink2Description: Digi-Key Listing; ComponentLink2URL: https://www.digikey.com/product-detail/en/on-semiconductor/MBR2H200SFT1G/MBR2H200SFT1GOSCT-ND/5022563; Junction Operating Temperature: -55C ~ 150C; Price: 0.42; Type: Schottky; Device Package: SOD-123F; Voltage DC Reverse (Vr): 200V; Current Rectified: 2A
footprint SOD123F
pins: 1, 2

## MBR2H200SFT3G
designator D?
DIODE SCHOTTKY 200V 2A SOD123; Manufacturer: ON Semiconductor; Current Reverse Leakage @ Vr: 200uA @ 200V; Voltage Forward (Vf): 940mV @ 2A; Part Number: MBR2H200SFT3G; PartId: 29697; Supplier 1: Digi-Key; Supplier Part Number 1: MBR2H200SFT3GOSCT-ND; ComponentLink1Description: Datasheet; ComponentLink1URL: http://www.onsemi.com/pub_link/Collateral/MBR2H200SF-D.PDF; ComponentLink2Description: Digi-Key Listing; ComponentLink2URL: https://www.digikey.com/product-detail/en/on-semiconductor/MBR2H200SFT3G/MBR2H200SFT3GOSCT-ND/5801703; Junction Operating Temperature: -55C ~ 150C; Price: 0.42; Type: Schottky; Device Package: SOD-123F; Voltage DC Reverse (Vr): 200V; Current Rectified: 2A
footprint SOD123F
pins: 1, 2

## MBR120ESFT1G
designator D?
DIODE SCHOTTKY 20V 1A SOD123L; Manufacturer: ON Semiconductor; Current Reverse Leakage @ Vr: 10uA @ 20V; Voltage Forward (Vf): 530mV @ 1A; Part Number: MBR120ESFT1G; PartId: 29326; Supplier 1: Digi-Key; Supplier Part Number 1: MBR120ESFT1GOSCT-ND; ComponentLink1Description: Datasheet; ComponentLink1URL: http://www.onsemi.com/pub_link/Collateral/MBR120ESFT1-D.PDF; ComponentLink2Description: Digi-Key Listing; ComponentLink2URL: https://www.digikey.com/product-detail/en/on-semiconductor/MBR120ESFT1G/MBR120ESFT1GOSCT-ND/964525; Junction Operating Temperature: -65C ~ 150C; Price: 0.42; Type: Schottky; Device Package: SOD-123F; Voltage DC Reverse (Vr): 20V; Current Rectified: 1A
footprint SOD123F
pins: 1, 2

## MBR120ESFT3G
designator D?
DIODE SCHOTTKY 20V 1A SOD123L; Manufacturer: ON Semiconductor; Current Reverse Leakage @ Vr: 10uA @ 20V; Voltage Forward (Vf): 530mV @ 1A; Part Number: MBR120ESFT3G; PartId: 29278; Supplier 1: Digi-Key; Supplier Part Number 1: MBR120ESFT3GOSCT-ND; ComponentLink1Description: Datasheet; ComponentLink1URL: http://www.onsemi.com/pub_link/Collateral/MBR120ESFT1-D.PDF; ComponentLink2Description: Digi-Key Listing; ComponentLink2URL: https://www.digikey.com/product-detail/en/on-semiconductor/MBR120ESFT3G/MBR120ESFT3GOSCT-ND/5969071; Junction Operating Temperature: -65C ~ 150C; Price: 0.42; Type: Schottky; Device Package: SOD-123F; Voltage DC Reverse (Vr): 20V; Current Rectified: 1A
footprint SOD123F
pins: 1, 2

## MBR120LSFT1G
designator D?
DIODE SCHOTTKY 20V 1A SOD123L; Manufacturer: ON Semiconductor; Current Reverse Leakage @ Vr: 400uA @ 20V; Voltage Forward (Vf): 450mV @ 1A; Part Number: MBR120LSFT1G; PartId: 29203; Supplier 1: Digi-Key; Supplier Part Number 1: MBR120LSFT1GOSCT-ND; ComponentLink1Description: Datasheet; ComponentLink1URL: http://www.onsemi.com/pub_link/Collateral/MBR120LSFT1-D.PDF; ComponentLink2Description: Digi-Key Listing; ComponentLink2URL: https://www.digikey.com/product-detail/en/on-semiconductor/MBR120LSFT1G/MBR120LSFT1GOSCT-ND/920606; Junction Operating Temperature: -55C ~ 125C; Price: 0.43; Type: Schottky; Device Package: SOD-123F; Voltage DC Reverse (Vr): 20V; Current Rectified: 1A
footprint SOD123F
pins: 1, 2

## MBR120LSFT3G
designator D?
DIODE SCHOTTKY 20V 1A SOD123L; Manufacturer: ON Semiconductor; Current Reverse Leakage @ Vr: 400uA @ 20V; Voltage Forward (Vf): 450mV @ 1A; Part Number: MBR120LSFT3G; PartId: 29282; Supplier 1: Digi-Key; Supplier Part Number 1: MBR120LSFT3GOSCT-ND; ComponentLink1Description: Datasheet; ComponentLink1URL: http://www.onsemi.com/pub_link/Collateral/MBR120LSFT1-D.PDF; ComponentLink2Description: Digi-Key Listing; ComponentLink2URL: https://www.digikey.com/product-detail/en/on-semiconductor/MBR120LSFT3G/MBR120LSFT3GOSCT-ND/6181718; Junction Operating Temperature: -55C ~ 125C; Price: 0.43; Type: Schottky; Device Package: SOD-123F; Voltage DC Reverse (Vr): 20V; Current Rectified: 1A
footprint SOD123F
pins: 1, 2

## MBR120VLSFT1G
designator D?
DIODE SCHOTTKY 20V 1A SOD123FL; Manufacturer: ON Semiconductor; Current Reverse Leakage @ Vr: 600uA @ 20V; Voltage Forward (Vf): 340mV @ 1A; Part Number: MBR120VLSFT1G; PartId: 29168; Supplier 1: Digi-Key; Supplier Part Number 1: MBR120VLSFT1GOSCT-ND; ComponentLink1Description: Datasheet; ComponentLink1URL: http://www.onsemi.com/pub_link/Collateral/MBR120VLSFT1-D.PDF; ComponentLink2Description: Digi-Key Listing; ComponentLink2URL: https://www.digikey.com/product-detail/en/on-semiconductor/MBR120VLSFT1G/MBR120VLSFT1GOSCT-ND/893874; Junction Operating Temperature: -65C ~ 125C; Price: 0.47; Type: Schottky; Device Package: SOD-123F; Voltage DC Reverse (Vr): 20V; Current Rectified: 1A
footprint SOD123F
pins: 1, 2

## MBR120VLSFT3G
designator D?
DIODE SCHOTTKY 20V 1A SOD123FL; Manufacturer: ON Semiconductor; Current Reverse Leakage @ Vr: 600uA @ 20V; Voltage Forward (Vf): 340mV @ 1A; Part Number: MBR120VLSFT3G; PartId: 29200; Supplier 1: Digi-Key; Supplier Part Number 1: MBR120VLSFT3GOSCT-ND; ComponentLink1Description: Datasheet; ComponentLink1URL: http://www.onsemi.com/pub_link/Collateral/MBR120VLSFT1-D.PDF; ComponentLink2Description: Digi-Key Listing; ComponentLink2URL: https://www.digikey.com/product-detail/en/on-semiconductor/MBR120VLSFT3G/MBR120VLSFT3GOSCT-ND/3487322; Junction Operating Temperature: -65C ~ 125C; Price: 0.47; Type: Schottky; Device Package: SOD-123F; Voltage DC Reverse (Vr): 20V; Current Rectified: 1A
footprint SOD123F
pins: 1, 2

## MBR130HWTR
designator D?
PIV 30V IO 1A VF 0 45V PACKAGE S; Manufacturer: SMC Diode Solutions; Type: Schottky; Current Reverse Leakage @ Vr: 400uA @ 30V; Voltage Forward (Vf): 450mV @ 1A; Part Number: MBR130HWTR; PartId: 29424; Supplier 1: Digi-Key; Supplier Part Number 1: 1655-1437-1-ND; ComponentLink1Description: Datasheet; ComponentLink1URL: http://www.smc-diodes.com/propdf/MBR130HW%20N0716%20REV.A.pdf; ComponentLink2Description: Digi-Key Listing; ComponentLink2URL: https://www.digikey.com/product-detail/en/smc-diode-solutions/MBR130HWTR/1655-1437-1-ND/6022882; Junction Operating Temperature: -65C ~ 125C; Price: 0.36; Device Package: SOD-123; Voltage DC Reverse (Vr): 30V; Current Rectified: 1A
footprint SOD-123
pins: 1, 2

## MBR130LSFT1G
designator D?
DIODE SCHOTTKY 30V 1A SOD123L; Manufacturer: ON Semiconductor; Current Reverse Leakage @ Vr: 1mA @ 30V; Voltage Forward (Vf): 380mV @ 1A; Part Number: MBR130LSFT1G; PartId: 29165; Supplier 1: Digi-Key; Supplier Part Number 1: MBR130LSFT1GOSCT-ND; ComponentLink1Description: Datasheet; ComponentLink1URL: http://www.onsemi.com/pub_link/Collateral/MBR130LSFT1-D.PDF; ComponentLink2Description: Digi-Key Listing; ComponentLink2URL: https://www.digikey.com/product-detail/en/on-semiconductor/MBR130LSFT1G/MBR130LSFT1GOSCT-ND/1477159; Junction Operating Temperature: -55C ~ 125C; Price: 0.46; Type: Schottky; Device Package: SOD-123F; Voltage DC Reverse (Vr): 30V; Current Rectified: 1A
footprint SOD123F
pins: 1, 2

## MBR130T1G
designator D?
DIODE SCHOTTKY 30V 1A SOD123; Manufacturer: ON Semiconductor; Current Reverse Leakage @ Vr: 60uA @ 30V; Voltage Forward (Vf): 450mV @ 700mA; Part Number: MBR130T1G; PartId: 29349; Supplier 1: Digi-Key; Supplier Part Number 1: MBR130T1GOSCT-ND; ComponentLink1Description: Datasheet; ComponentLink1URL: http://www.onsemi.com/pub_link/Collateral/MBR130T1-D.PDF; ComponentLink2Description: Digi-Key Listing; ComponentLink2URL: https://www.digikey.com/product-detail/en/on-semiconductor/MBR130T1G/MBR130T1GOSCT-ND/917968; Junction Operating Temperature: -65C ~ 125C; Price: 0.41; Type: Schottky; Device Package: SOD-123; Voltage DC Reverse (Vr): 30V; Current Rectified: 1A
footprint SOD-123
pins: 1, 2

## MBR130T3G
designator D?
DIODE SCHOTTKY 30V 1A SOD123; Manufacturer: ON Semiconductor; Current Reverse Leakage @ Vr: 60uA @ 30V; Voltage Forward (Vf): 450mV @ 700mA; Part Number: MBR130T3G; PartId: 29429; Supplier 1: Digi-Key; Supplier Part Number 1: MBR130T3GOSCT-ND; ComponentLink1Description: Datasheet; ComponentLink1URL: http://www.onsemi.com/pub_link/Collateral/MBR130T1-D.PDF; ComponentLink2Description: Digi-Key Listing; ComponentLink2URL: https://www.digikey.com/product-detail/en/on-semiconductor/MBR130T3G/MBR130T3GOSCT-ND/3487323; Junction Operating Temperature: -65C ~ 125C; Price: 0.41; Type: Schottky; Device Package: SOD-123; Voltage DC Reverse (Vr): 30V; Current Rectified: 1A
footprint SOD-123
pins: 1, 2

## MBR140SFT1G
designator D?
DIODE SCHOTTKY 40V 1A SOD123L; Manufacturer: ON Semiconductor; Current Reverse Leakage @ Vr: 500uA @ 40V; Voltage Forward (Vf): 550mV @ 1A; Part Number: MBR140SFT1G; PartId: 29164; Supplier 1: Digi-Key; Supplier Part Number 1: MBR140SFT1GOSCT-ND; ComponentLink1Description: Datasheet; ComponentLink1URL: http://www.onsemi.com/pub_link/Collateral/MBR140SFT1-D.PDF; ComponentLink2Description: Digi-Key Listing; ComponentLink2URL: https://www.digikey.com/product-detail/en/on-semiconductor/MBR140SFT1G/MBR140SFT1GOSCT-ND/917969; Junction Operating Temperature: -55C ~ 125C; Price: 0.4; Type: Schottky; Device Package: SOD-123F; Voltage DC Reverse (Vr): 40V; Current Rectified: 1A
footprint SOD123F
pins: 1, 2

## MBR140SFT3G
designator D?
DIODE SCHOTTKY 40V 1A SOD123FL; Manufacturer: ON Semiconductor; Current Reverse Leakage @ Vr: 500uA @ 40V; Voltage Forward (Vf): 550mV @ 1A; Part Number: MBR140SFT3G; PartId: 29275; Supplier 1: Digi-Key; Supplier Part Number 1: MBR140SFT3GOSCT-ND; ComponentLink1Description: Datasheet; ComponentLink1URL: http://www.onsemi.com/pub_link/Collateral/MBR140SFT1-D.PDF; ComponentLink2Description: Digi-Key Listing; ComponentLink2URL: https://www.digikey.com/product-detail/en/on-semiconductor/MBR140SFT3G/MBR140SFT3GOSCT-ND/4927886; Junction Operating Temperature: -55C ~ 125C; Price: 0.41; Type: Schottky; Device Package: SOD-123F; Voltage DC Reverse (Vr): 40V; Current Rectified: 1A
footprint SOD123F
pins: 1, 2

## MBR160HWTR
designator D?
PIV 60V IO 1A VF 0 72V PACKAGE S; Manufacturer: SMC Diode Solutions; Type: Schottky; Current Reverse Leakage @ Vr: 300uA @ 60V; Voltage Forward (Vf): 720mV @ 1A; Part Number: MBR160HWTR; PartId: 29425; Supplier 1: Digi-Key; Supplier Part Number 1: 1655-1439-1-ND; ComponentLink1Description: Datasheet; ComponentLink1URL: http://www.smc-diodes.com/propdf/MBR160HW%20N0933%20REV.A.pdf; ComponentLink2Description: Digi-Key Listing; ComponentLink2URL: https://www.digikey.com/product-detail/en/smc-diode-solutions/MBR160HWTR/1655-1439-1-ND/6022884; Junction Operating Temperature: -55C ~ 125C; Price: 0.36; Device Package: SOD-123; Voltage DC Reverse (Vr): 60V; Current Rectified: 1A
footprint SOD-123
pins: 1, 2

## MBR180S1-7
designator D?
DIODE SCHOTTKY 80V 1A SOD123; Manufacturer: Diodes Incorporated; Current Reverse Leakage @ Vr: 5uA @ 80V; Voltage Forward (Vf): 800mV @ 1A; Part Number: MBR180S1-7; PartId: 29435; Supplier 1: Digi-Key; Supplier Part Number 1: MBR180S1-7DICT-ND; ComponentLink1Description: Datasheet; ComponentLink1URL: http://www.diodes.com/_files/datasheets/MBR180S1.pdf; ComponentLink2Description: Digi-Key Listing; ComponentLink2URL: https://www.digikey.com/product-detail/en/diodes-incorporated/MBR180S1-7/MBR180S1-7DICT-ND/6013033; Junction Operating Temperature: -55C ~ 175C; Price: 0.34; Type: Schottky; Device Package: SOD-123; Voltage DC Reverse (Vr): 80V; Current Rectified: 1A
footprint SOD-123
pins: 1, 2

## MBR230LSFT1G
designator D?
DIODE SCHOTTKY 30V 2A SOD123L; Manufacturer: ON Semiconductor; Current Reverse Leakage @ Vr: 1mA @ 30V; Voltage Forward (Vf): 430mV @ 2A; Part Number: MBR230LSFT1G; PartId: 29335; Supplier 1: Digi-Key; Supplier Part Number 1: MBR230LSFT1GOSCT-ND; ComponentLink1Description: Datasheet; ComponentLink1URL: http://www.onsemi.com/pub_link/Collateral/MBR230LSFT1-D.PDF; ComponentLink2Description: Digi-Key Listing; ComponentLink2URL: https://www.digikey.com/product-detail/en/on-semiconductor/MBR230LSFT1G/MBR230LSFT1GOSCT-ND/1967064; Junction Operating Temperature: -55C ~ 125C; Price: 0.38; Type: Schottky; Device Package: SOD-123F; Voltage DC Reverse (Vr): 30V; Current Rectified: 2A
footprint SOD123F
pins: 1, 2

## MBR230S1F-7
designator D?
DIODE SCHOTTKY 30V 2A SOD123F; Manufacturer: Diodes Incorporated; Current Reverse Leakage @ Vr: 1mA @ 30V; Voltage Forward (Vf): 420mV @ 2A; Part Number: MBR230S1F-7; PartId: 29197; Supplier 1: Digi-Key; Supplier Part Number 1: MBR230S1F-7DICT-ND; ComponentLink1Description: Datasheet; ComponentLink1URL: http://diodes.com/_files/datasheets/MBR230S1F.pdf; ComponentLink2Description: Digi-Key Listing; ComponentLink2URL: https://www.digikey.com/product-detail/en/diodes-incorporated/MBR230S1F-7/MBR230S1F-7DICT-ND/4948462; Junction Operating Temperature: -55C ~ 125C; Price: 0.4; Type: Schottky; Device Package: SOD-123F; Voltage DC Reverse (Vr): 30V; Current Rectified: 2A
footprint SOD123F
pins: 1, 2

## MBR0520-TP
designator D?
DIODE SCHOTTKY 20V 500MA SOD123; Manufacturer: Micro Commercial Co; Current Reverse Leakage @ Vr: 200uA @ 20V; Voltage Forward (Vf): 450mV @ 500mA; Part Number: MBR0520-TP; PartId: 29375; Supplier 1: Digi-Key; Supplier Part Number 1: MBR0520TPMSCT-ND; ComponentLink1Description: Datasheet; ComponentLink1URL: http://www.mccsemi.com/up_pdf/MBR0520~MBR0580(SOD123).pdf; ComponentLink2Description: Digi-Key Listing; ComponentLink2URL: https://www.digikey.com/product-detail/en/micro-commercial-co/MBR0520-TP/MBR0520TPMSCT-ND/717365; Junction Operating Temperature: -65C ~ 125C; Price: 0.39; Type: Schottky; Device Package: SOD-123; Voltage DC Reverse (Vr): 20V; Current Rectified: 500mA
footprint SOD-123
pins: 1, 2

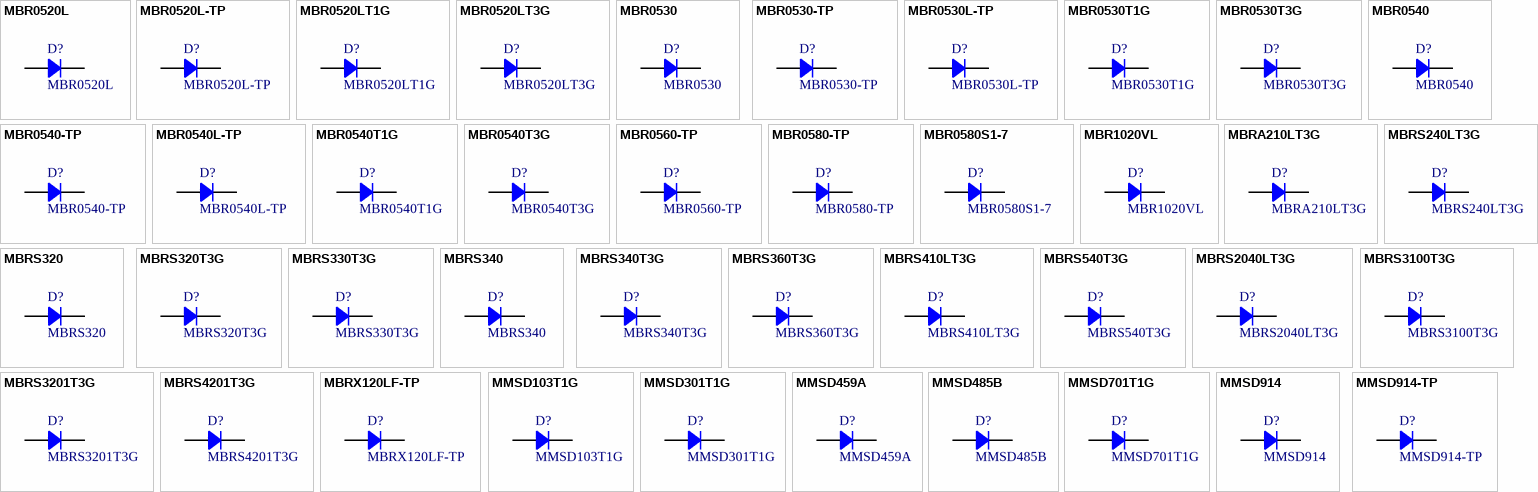
[diagram p8: symbols MBR0520L to MMSD914-TP]

## MBR0520L
designator D?
DIODE SCHOTTKY 20V 500MA SOD123; Manufacturer: Fairchild/ON Semiconductor; Current Reverse Leakage @ Vr: 250uA @ 20V; Voltage Forward (Vf): 385mV @ 500mA; Part Number: MBR0520L; PartId: 29343; Supplier 1: Digi-Key; Supplier Part Number 1: MBR0520LCT-ND; ComponentLink1Description: Datasheet; ComponentLink1URL: https://www.fairchildsemi.com/datasheets/MB/MBR0520L.pdf; ComponentLink2Description: Digi-Key Listing; ComponentLink2URL: https://www.digikey.com/product-detail/en/fairchild-on-semiconductor/MBR0520L/MBR0520LCT-ND/458961; Junction Operating Temperature: -65C ~ 125C; Price: 0.34; Type: Schottky; Device Package: SOD-123; Voltage DC Reverse (Vr): 20V; Current Rectified: 500mA
footprint SOD-123
pins: 1, 2

## MBR0520L-TP
designator D?
DIODE SCHOTTKY 20V 500MA SOD123; Manufacturer: Micro Commercial Co; Current Reverse Leakage @ Vr: 250uA @ 20V; Voltage Forward (Vf): 385mV @ 500mA; Part Number: MBR0520L-TP; PartId: 29381; Supplier 1: Digi-Key; Supplier Part Number 1: MBR0520L-TPMSCT-ND; ComponentLink1Description: Datasheet; ComponentLink1URL: http://www.mccsemi.com/up_pdf/MBR0520L~MBR0540L(SOD-123).pdf; ComponentLink2Description: Digi-Key Listing; ComponentLink2URL: https://www.digikey.com/product-detail/en/micro-commercial-co/MBR0520L-TP/MBR0520L-TPMSCT-ND/3191633; Junction Operating Temperature: -65C ~ 125C; Price: 0.39; Type: Schottky; Device Package: SOD-123; Voltage DC Reverse (Vr): 20V; Current Rectified: 500mA
footprint SOD-123
pins: 1, 2